# Altium schematic symbol library JN516X.SchLib: 1 symbol
Pins are listed as number, name and electrical type; pins without a type are passive.

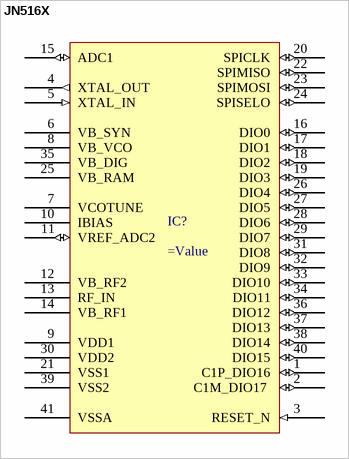
[diagram p0: symbol JN516X]

## JN516X
designator IC?
=Description
pins: 1 C1P_DIO16 (io), 2 C1M_DIO17  (io), 3 RESET_N (in), 4 XTAL_OUT (out), 5 XTAL_IN (in), 6 VB_SYN (power), 7 VCOTUNE, 8 VB_VCO  (power), 9 VDD1 (power), 10 IBIAS, 11 VREF_ADC2 (io), 12 VB_RF2 (power), 13 RF_IN, 14 VB_RF1 (power), 15 ADC1 (io), 16 DIO0 (io), 17 DIO1 (io), 18 DIO2 (io), 19 DIO3 (io), 20 SPICLK (io), 21 VSS1 (power), 22 SPIMISO (io), 23 SPIMOSI (io), 24 SPISELO (io), 25 VB_RAM (power), 26 DIO4 (io), 27 DIO5 (io), 28 DIO6 (io), 29 DIO7 (io), 30 VDD2 (power), 31 DIO8 (io), 32 DIO9 (io), 33 DIO10 (io), 34 DIO11 (io), 35 VB_DIG (power), 36 DIO12 (io), 37 DIO13 (io), 38 DIO14 (io), 39 VSS2 (power), 40 DIO15 (io), 41 VSSA (power)